# Altium footprint library Connectrors.PcbLib: 4 footprints
Each footprint in its own frame and in the unit in brackets; x right, y up, seen from the top. Pads: shape width x height; smd on the part's side, far side on the other; paste and mask are expansions set on the pad; w line width, h text height; cw(c..) or ccw(c..) is an arc to the next point about the centre after c.
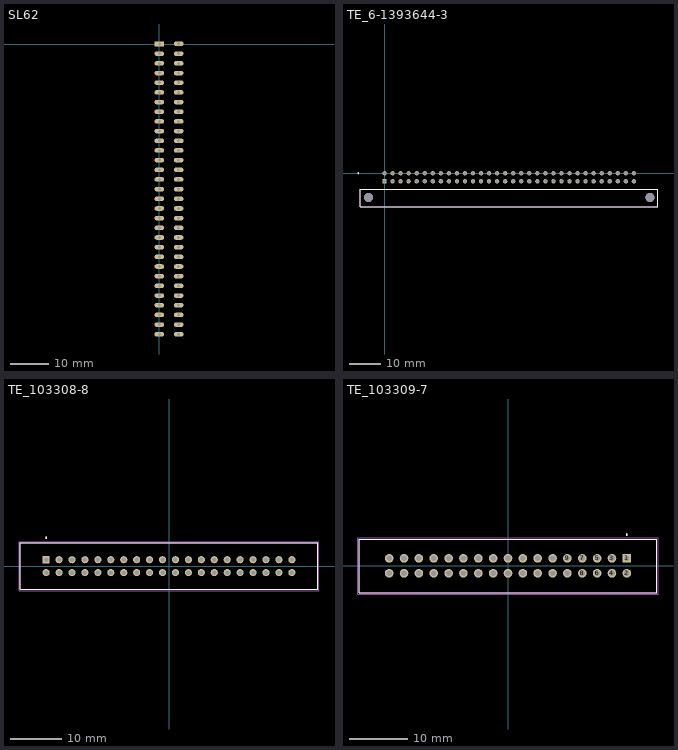
[diagram p0: the footprints below, top view; thin cyan lines are the x and y axes]

## SL62 [mm]
pads (62):
  rect 2.5x1.2 hole 0.8: 1(0,0)
  oval 2.5x1.2 hole 0.8: 2(0,-2.54) 3(0,-5.08) 4(0,-7.62) 5(0,-10.16) 6(0,-12.7) 7(0,-15.24) 8(0,-17.78) 9(0,-20.32) 10(0,-22.86) 11(0,-25.4) 12(0,-27.94) 13(0,-30.48) 14(0,-33.02) 15(0,-35.56) 16(0,-38.1) 17(0,-40.64) 18(0,-43.18) 19(0,-45.72) 20(0,-48.26) 21(0,-50.8) 22(0,-53.34) 23(0,-55.88) 24(0,-58.42) 25(0,-60.96) 26(0,-63.5) 27(0,-66.04) 28(0,-68.58) 29(0,-71.12) 30(0,-73.66) 31(0,-76.2) 32(5.08,0.07) 33(5.08,-2.54) 34(5.08,-5.08) 35(5.08,-7.62) 36(5.08,-10.16) 37(5.08,-12.7) 38(5.08,-15.24) 39(5.08,-17.78) 40(5.08,-20.32) 41(5.08,-22.86) 42(5.08,-25.4) 43(5.08,-27.94) 44(5.08,-30.48) 45(5.08,-33.02) 46(5.08,-35.56) 47(5.08,-38.1) 48(5.08,-40.64) 49(5.08,-43.18) 50(5.08,-45.72) 51(5.08,-48.26) 52(5.08,-50.8) 53(5.08,-53.34) 54(5.08,-55.88) 55(5.08,-58.42) 56(5.08,-60.96) 57(5.08,-63.5) 58(5.08,-66.04) 59(5.08,-68.58) 60(5.08,-71.12) 61(5.08,-73.66) 62(5.08,-76.2)
3D body "5176138-2 SL62.STEP": height 16.13, standoff -2.67, extent -2.261,-80.772 7.214,4.572

## TE_6-1393644-3 [mm] "DIN41612R"
pads (66):
  rect 1.35x1.35 hole 1: 1(0,-2.54)
  round 1.35 hole 1: 2(2.54,-2.54) 3(5.08,-2.54) 4(7.62,-2.54) 5(10.16,-2.54) 6(12.7,-2.54) 7(15.24,-2.54) 8(17.78,-2.54) 9(20.32,-2.54) 10(22.86,-2.54) 11(25.4,-2.54) 12(27.94,-2.54) 13(30.48,-2.54) 14(33.02,-2.54) 15(35.56,-2.54) 16(38.1,-2.54) 17(40.64,-2.54) 18(43.18,-2.54) 19(45.72,-2.54) 20(48.26,-2.54) 21(50.8,-2.54) 22(53.34,-2.54) 23(55.88,-2.54) 24(58.42,-2.54) 25(60.96,-2.54) 26(63.5,-2.54) 27(66.04,-2.54) 28(68.58,-2.54) 29(71.12,-2.54) 30(73.66,-2.54) 31(76.2,-2.54) 32(78.74,-2.54) 33(0,0) 34(2.54,0) 35(5.08,0) 36(7.62,0) 37(10.16,0) 38(12.7,0) 39(15.24,0) 40(17.78,0) 41(20.32,0) 42(22.86,0) 43(25.4,0) 44(27.94,0) 45(30.48,0) 46(33.02,0) 47(35.56,0) 48(38.1,0) 49(40.64,0) 50(43.18,0) 51(45.72,0) 52(48.26,0) 53(50.8,0) 54(53.34,0) 55(55.88,0) 56(58.42,0) 57(60.96,0) 58(63.5,0) 59(66.04,0) 60(68.58,0) 61(71.12,0) 62(73.66,0) 63(76.2,0) 64(78.74,0)
  round 2.8 hole 2.8 unplated: ""(-5.08,-7.62) ""(83.82,-7.62)
Top Overlay:
  circle w0.2: c-8.28,0 r0.1
  lines w0.127: -7.63,-10.62 -7.63,-5.08 86.37,-5.08 86.37,-10.62 -7.63,-10.62
Mechanical 13:
  circle w0.2: c-8.28,0 r0.1
  lines w0.127: -7.63,-10.62 -7.63,-5.08 86.37,-5.08 86.37,-10.62 -7.63,-10.62
3D body "6-1393644-3 41614.stp": height 8.92, standoff -1.53, extent -7.63,-15.29 86.37,0.25

## TE_103308-8 [mil]
pads (40):
  rect 55x55 hole 35: 1(-950,50)
  round 55 hole 35: 2(-950,-50) 3(-850,50) 4(-850,-50) 5(-750,50) 6(-750,-50) 7(-650,50) 8(-650,-50) 9(-550,50) 10(-550,-50) 11(-450,50) 12(-450,-50) 13(-350,50) 14(-350,-50) 15(-250,50) 16(-250,-50) 17(-150,50) 18(-150,-50) 19(-50,50) 20(-50,-50) 21(50,50) 22(50,-50) 23(150,50) 24(150,-50) 25(250,50) 26(250,-50) 27(350,50) 28(350,-50) 29(450,50) 30(450,-50) 31(550,50) 32(550,-50) 33(650,50) 34(650,-50) 35(750,50) 36(750,-50) 37(850,50) 38(850,-50) 39(950,50) 40(950,-50)
Top Overlay:
  circle w7.87: c-950,219.37 r3.94
  lines w5: -1150,-180 -1150,180 1150,180 1150,-180 -1150,-180
Mechanical 13:
  circle w7.87: c-950,219.37 r3.94
  lines w5: -1150,-180 -1150,180 1150,180 1150,-180 -1150,-180
Mechanical 15:
  lines w1.97: -1159.84,-189.84 -1159.84,189.84 1159.84,189.84 1159.84,-189.84 -1159.84,-189.84
3D body "103308-8 BH40.stp": height 397.64, standoff -110.36, extent -1155,-180 1145,180

## TE_103309-7 [mil]
height 385.04
pads (34):
  rect 58x58 hole 38: 1(800,50)
  round 58 hole 38: 2(800,-50) 3(700,50) 4(700,-50) 5(600,50) 6(600,-50) 7(500,50) 8(500,-50) 9(400,50) 10(400,-50) 11(300,50) 12(300,-50) 13(200,50) 14(200,-50) 15(100,50) 16(100,-50) 17(0,50) 18(0,-50) 19(-100,50) 20(-100,-50) 21(-200,50) 22(-200,-50) 23(-300,50) 24(-300,-50) 25(-400,50) 26(-400,-50) 27(-500,50) 28(-500,-50) 29(-600,50) 30(-600,-50) 31(-700,50) 32(-700,-50) 33(-800,50) 34(-800,-50)
Top Overlay:
  circle w7.87: c800,210.63 r3.94
  lines w5: -1000,-180 -1000,180 1000,180 1000,-180 -1000,-180
Mechanical 13:
  circle w7.87: c800,210.63 r3.94
  lines w5: -1000,-180 -1000,180 1000,180 1000,-180 -1000,-180
Mechanical 15:
  lines w1.97: -1009.84,-189.84 -1009.84,189.84 1009.84,189.84 1009.84,-189.84 -1009.84,-189.84
3D body "DS1013-34S (IDC-34MS CONNFLY).step": height 366.14, standoff -129.92, extent -1003.54,-173.23 1003.54,177.16